# Altium integrated library Soberton Inc Microphones.IntLib: 1 symbol
Pins are listed as number, name and electrical type; pins without a type are passive.

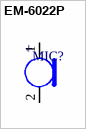
[diagram p0: symbol EM-6022P]

## EM-6022P
designator MIC?
100Hz ~ 15kHz Analog Microphone Electret Condenser 1V ~ 10V Omnidirectional (-44dB ±3dB @ 94dB SPL) PC Pins; Manufacture: Soberton Inc.; Part Number: EM-6022P; Package: EM-6022P; PackageDescription: Circular, Diameter 6.0mm, Height 2.4mm, 2-Pin, Thru-Hole; Supplier 1: Digi-Key; Supplier Part Number 1: 433-1088-ND
footprint EM6022-P (Microphone, Thru-Hole; 2 Leads; Pin Spacing 1.9mm; Diameter 6.0mm)
3D model EM-6022P (PCB3D Model)
pins: 1, 2
text: +